# EAGLE library part NJM2360AM (library taki-library)
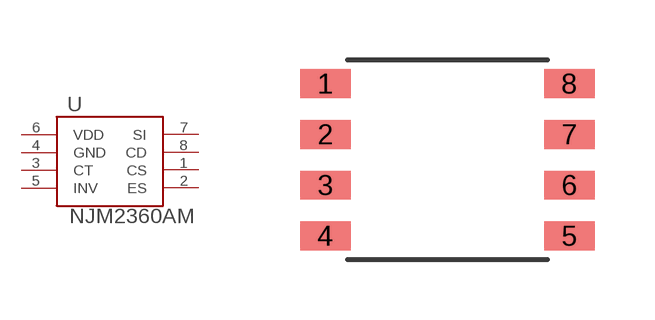
[diagram p0: symbol with the pads of DMP8; footprint DMP8]

Designator prefix U

## NJM2360AM (STORE: RS; URL: https://jp.rs-online.com/web/p/dc-dc-controllers/7139849/)  [DMP8]
1  CS
2  ES
3  CT
4  GND
5  INV
6  VDD
7  SI
8  CD

## Footprint DMP8 (pad centres in mm)
smd 1.27 x 0.72: 1 -3.05,1.905; 2 -3.05,0.635; 3 -3.05,-0.635; 4 -3.05,-1.905; 5 3.05,-1.905; 6 3.05,-0.635; 7 3.05,0.635; 8 3.05,1.905